# Altium footprint library TNPW06035K11BEEA.PcbLib: 3 footprints
Each footprint in its own frame and in the unit in brackets; x right, y up, seen from the top. Pads: shape width x height; smd on the part's side, far side on the other; paste and mask are expansions set on the pad; w line width, h text height; cw(c..) or ccw(c..) is an arc to the next point about the centre after c.
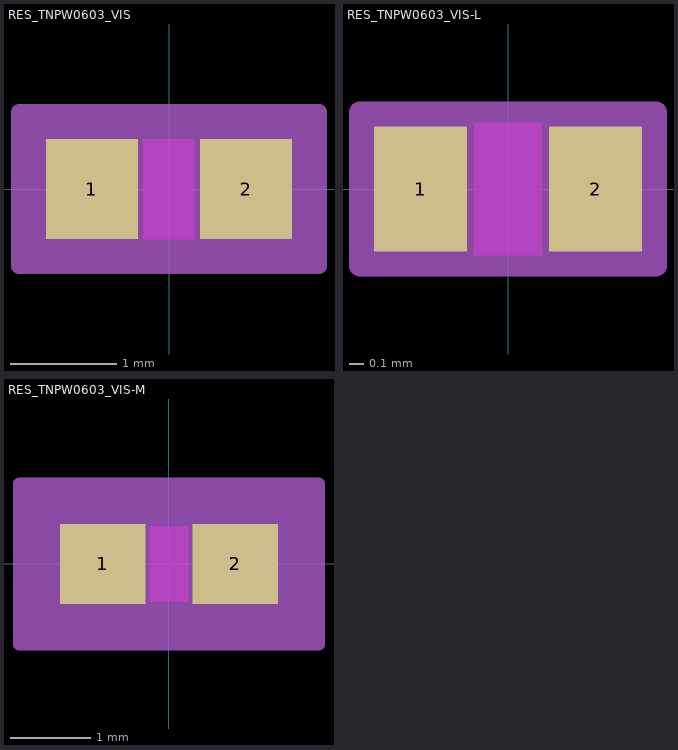
[diagram p0: the footprints below, top view; thin cyan lines are the x and y axes]

## RES_TNPW0603_VIS [mil]
pads (2):
  rect 34x37 smd paste+0 mask+0: 1(-28.5,0) 2(28.5,0)
Top Layer keep-out:
  region: -9.5,-16.5 -9.5,16.5 9.5,16.5 9.5,-16.5
Top Overlay:
  text ".Designator" at -137.5,-25 h50
Keep-Out Layer:
  region: -9.5,-18.5 -9.5,18.5 9.5,18.5 9.5,-18.5
Mechanical 13:
  lines w1: -31.5,-18.5 -31.5,18.5 ; -31.5,-18.5 -11.5,-18.5 -11.5,18.5 -31.5,18.5 ; -31.5,-18.5 31.5,-18.5 ; -31.5,-18.5 -31.5,18.5 ; -31.5,18.5 31.5,18.5 ; 31.5,-18.5 11.5,-18.5 11.5,18.5 31.5,18.5 ; 31.5,-18.5 31.5,18.5 ; 31.5,-18.5 31.5,18.5
  text ".Designator" at -137.5,-25 h50
Mechanical 15:
  region: 55.5,-28.5 -55.5,-28.5 -55.5,28.5 55.5,28.5
  lines w6: -55.5,-28.5 -55.5,28.5 55.5,28.5 55.5,-28.5 -55.5,-28.5
3D body "RES_TNPW0603_VIS.step": height 22.01, standoff 0, extent -31.5,-18.5 31.5,18.5

## RES_TNPW0603_VIS-L [mil]
pads (2):
  rect 26x35 smd paste+0 mask+0: 1(-24.5,0) 2(24.5,0)
Top Layer keep-out:
  region: -9.5,-16.5 -9.5,16.5 9.5,16.5 9.5,-16.5
Top Overlay:
  text ".Designator" at -137.5,-25 h50
Keep-Out Layer:
  region: -9.5,-18.5 -9.5,18.5 9.5,18.5 9.5,-18.5
Mechanical 13:
  lines w1: -31.5,-18.5 -31.5,18.5 ; -31.5,-18.5 -11.5,-18.5 -11.5,18.5 -31.5,18.5 ; -31.5,-18.5 31.5,-18.5 ; -31.5,-18.5 -31.5,18.5 ; -31.5,18.5 31.5,18.5 ; 31.5,-18.5 11.5,-18.5 11.5,18.5 31.5,18.5 ; 31.5,-18.5 31.5,18.5 ; 31.5,-18.5 31.5,18.5
  text ".Designator" at -137.5,-25 h50
Mechanical 15:
  region: 41.5,-21.5 -41.5,-21.5 -41.5,21.5 41.5,21.5
  lines w6: -41.5,-21.5 -41.5,21.5 41.5,21.5 41.5,-21.5 -41.5,-21.5
3D body "RES_TNPW0603_VIS.step": height 22.01, standoff 0, extent -31.5,-18.5 31.5,18.5

## RES_TNPW0603_VIS-M [mil]
pads (2):
  rect 42x39 smd paste+0 mask+0: 1(-32.5,0) 2(32.5,0)
Top Layer keep-out:
  region: -9.5,-16.5 -9.5,16.5 9.5,16.5 9.5,-16.5
Top Overlay:
  text ".Designator" at -137.5,-25 h50
Keep-Out Layer:
  region: -9.5,-18.5 -9.5,18.5 9.5,18.5 9.5,-18.5
Mechanical 13:
  lines w1: -31.5,-18.5 -31.5,18.5 ; -31.5,-18.5 -11.5,-18.5 -11.5,18.5 -31.5,18.5 ; -31.5,-18.5 31.5,-18.5 ; -31.5,-18.5 -31.5,18.5 ; -31.5,18.5 31.5,18.5 ; 31.5,-18.5 11.5,-18.5 11.5,18.5 31.5,18.5 ; 31.5,-18.5 31.5,18.5 ; 31.5,-18.5 31.5,18.5
  text ".Designator" at -137.5,-25 h50
Mechanical 15:
  region: 73.5,-39.5 -73.5,-39.5 -73.5,39.5 73.5,39.5
  lines w6: -73.5,-39.5 -73.5,39.5 73.5,39.5 73.5,-39.5 -73.5,-39.5
3D body "RES_TNPW0603_VIS.step": height 22.01, standoff 0, extent -31.5,-18.5 31.5,18.5